# EAGLE library part DG235-5.0-06 (library con-eko)
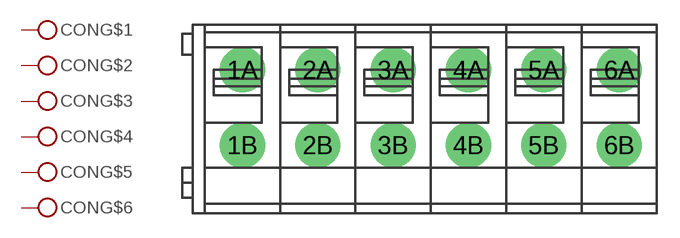
[diagram p5: symbol with the pads of DG235-5.0-06; footprint DG235-5.0-06]

Designator prefix CON; gates G$1=PIN G$2=PIN G$3=PIN G$4=PIN G$5=PIN G$6=PIN

## DG235-5.0-06  [DG235-5.0-06]
1A  G$1:P$1
1B  G$1:P$1
2A  G$2:P$1
2B  G$2:P$1
3A  G$3:P$1
3B  G$3:P$1
4A  G$4:P$1
4B  G$4:P$1
5A  G$5:P$1
5B  G$5:P$1
6A  G$6:P$1
6B  G$6:P$1

## Footprint DG235-5.0-06 (pad centres in mm)
drill 1.2 pad 3: 1A -15,2.5; 1B -15,-2.5; 2A -10,2.5; 2B -10,-2.5; 3A -5,2.5; 3B -5,-2.5; 4A 0,2.5; 4B 0,-2.5; 5A 5,2.5; 5B 5,-2.5; 6A 10,2.5; 6B 10,-2.5